# Altium schematic symbol library CONN_PLx.SchLib: 16 symbols
Pins are listed as number, name and electrical type; pins without a type are passive.

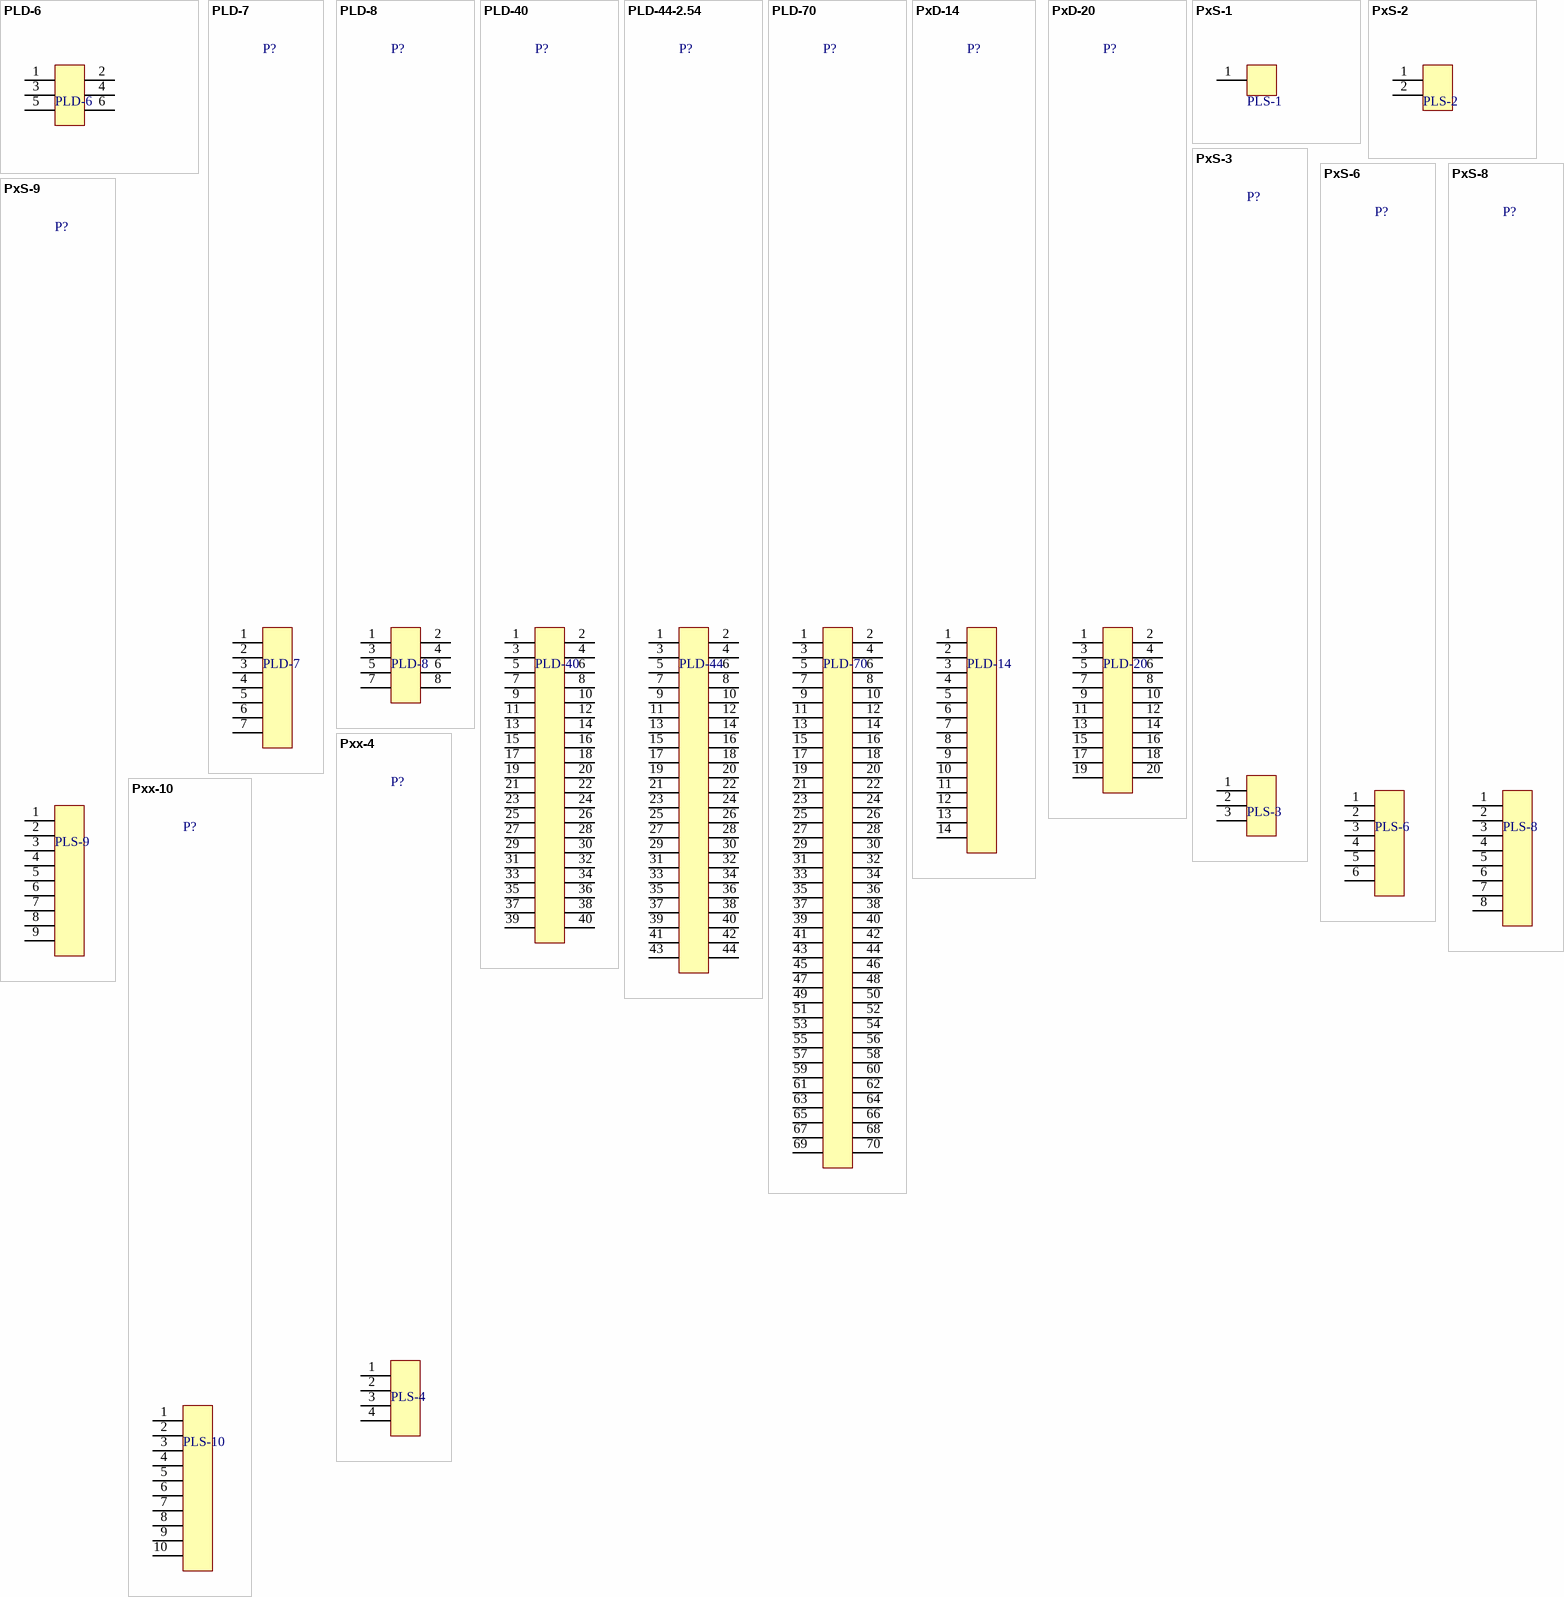
[diagram p0: symbols PLD-6 to Pxx-10]

## PLD-6
designator P?
Name: PLD-6; BOMString: PLD-6
footprint PLD-6-1.27
footprint PLD-6-2.54
footprint PLD-6-1.27_smt
pins: 1, 2, 3, 4, 5, 6

## PLD-7
designator P?
Name: PLD-7; BOMString: PLD-7
footprint PLD-7-2.54_LINE
pins: 1, 2, 3, 4, 5, 6, 7

## PLD-8
designator P?
Name: PLD-8; BOMString: PLD-8
footprint PLD-8-2.54
pins: 1, 2, 3, 4, 5, 6, 7, 8

## PLD-40
designator P?
Name: PLD-40; BOMString: PLD-40
footprint PLD40_2.0
footprint PLD40_2.54
pins: 1, 2, 3, 4, 5, 6, 7, 8, 9, 10, 11, 12, 13, 14, 15, 16, 17, 18, 19, 20, 21, 22, 23, 24, 25, 26, 27, 28, 29, 30, 31, 32, 33, 34, 35, 36, 37, 38, 39, 40

## PLD-44-2.54
designator P?, comment PLD-44
Name: PLD-44; BOMString: PLD-44
footprint PLD44_2.54
pins: 1, 2, 3, 4, 5, 6, 7, 8, 9, 10, 11, 12, 13, 14, 15, 16, 17, 18, 19, 20, 21, 22, 23, 24, 25, 26, 27, 28, 29, 30, 31, 32, 33, 34, 35, 36, 37, 38, 39, 40, 41, 42, 43, 44

## PLD-70
designator P?
Name: PLD-70; BOMString: PLD-70
footprint PLD70_2.0
pins: 1, 2, 3, 4, 5, 6, 7, 8, 9, 10, 11, 12, 13, 14, 15, 16, 17, 18, 19, 20, 21, 22, 23, 24, 25, 26, 27, 28, 29, 30, 31, 32, 33, 34, 35, 36, 37, 38, 39, 40, 41, 42, 43, 44, 45, 46, 47, 48, 49, 50, 51, 52, 53, 54, 55, 56, 57, 58, 59, 60, 61, 62, 63, 64, 65, 66, 67, 68, 69, 70

## PxD-14
designator P?, comment PLD-14
Name: PLD-14; BOMString: PLD-14
footprint PBD14_2.54
footprint PLD14_2.54
pins: 1, 2, 3, 4, 5, 6, 7, 8, 9, 10, 11, 12, 13, 14

## PxD-20
designator P?, comment PLD-20
Name: PLD-20; BOMString: PLD-20
footprint PLD20_2.54
footprint PBD20_2.54
footprint 3M_N2520-5002RB (20 Contacts - Right Angle .100" x .100" Low Profile Four-Wall Header)
pins: 1, 2, 3, 4, 5, 6, 7, 8, 9, 10, 11, 12, 13, 14, 15, 16, 17, 18, 19, 20

## PxS-1
designator P?, comment PLS-1
Name: PLS-1; BOMString: PLS-1
footprint PBS1_2.54
footprint PLS1_2.54
pins: 1

## PxS-2
designator P?, comment PLS-2
Name: PLS-2; BOMString: PLS-2
footprint PLS2_2.54
footprint PBS2_2.54
footprint PLS2_2.54_R_SMD (Pin List, 2.54mm, Surface Mount, Angled)
pins: 1, 2

## PxS-3
designator P?, comment PLS-3
Name: PLS-3; BOMString: PLS-3
footprint PLS3_1.27
footprint PLS3_2.54
footprint PLS3_2.0_NOOVERLAY
footprint PLS3_1.27_NOOVERLAY
footprint PBS3_2.54
footprint PLS3_2.54_R_SMD (Pin List, 2.54mm, Surface Mount, Angled)
pins: 1, 2, 3

## PxS-6
designator P?, comment PLS-6
Name: PLS-6; BOMString: PLS-6
footprint PBS6_2.54
footprint PLS6_2.54
footprint PBS6_2.54_R
footprint PLS6_2.54_R_SMD (Pin List, 2.54mm, Surface Mount, Angled)
pins: 1, 2, 3, 4, 5, 6

## PxS-8
designator P?, comment PLS-8
Name: PLS-8; BOMString: PLS-8
footprint PLS8_2.54
footprint PBS8_2.54
pins: 1, 2, 3, 4, 5, 6, 7, 8

## PxS-9
designator P?, comment PLS-9
Name: PLS-9; BOMString: PLS-9
footprint PBS9_2.54
footprint PLS9_2.54
pins: 1, 2, 3, 4, 5, 6, 7, 8, 9

## Pxx-4
designator P?, comment PLS-4
BOMString: PLS-4; Name: PLS-4
footprint PBD4_2.54
footprint PLD4_2.54
footprint PLS4_2.54
footprint PLS4_1.27_NOOVERLAY
footprint PBS4_2.54
footprint PLS4_2.54_R_SMD (Pin List, 2.54mm, Surface Mount, Angled)
pins: 1, 2, 3, 4

## Pxx-10
designator P?, comment PLS-10
BOMString: PLS-10; Name: PLS-10
footprint PBD10_2.54
footprint PBS10_2.54
footprint PLD10_1.27_smt
footprint PLD10_2.54
footprint PLS10_2.54
pins: 1, 2, 3, 4, 5, 6, 7, 8, 9, 10